# Altium schematic symbol library 3.3   - 铁氧体磁珠.SchLib: 1 symbol
Pins are listed as number, name and electrical type; pins without a type are passive.

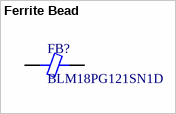
[diagram p0: symbol Ferrite Bead]

## Ferrite Bead
designator FB?, comment BLM18PG121SN1D
SMT Ferrite Chip
footprint FER 0402_1005 (Chip Ferrite, 2-Leads, Body 1.02x0.51mm, IPC Medium Density)
footprint FER 0603_1608 (Chip Ferrite, 2-Leads, Body 1.60x0.80mm, IPC Medium Density)
footprint FER 0805_2012 (Chip Ferrite, 2-Leads, Body 2.00x1.20mm, IPC Medium Density)
footprint FER 1206_3216 (Chip Ferrite, 2-Leads, Body 3.20x1.60mm, IPC Medium Density)
footprint FER 1806_4516 (Chip Ferrite, 2-Leads, Body 4.50x1.60mm, IPC Medium Density)
pins: 1, 2